# Altium integrated library TI Interface LVDS M-LVDS ECL CML.IntLib: 251 symbols (part 7 of 10)
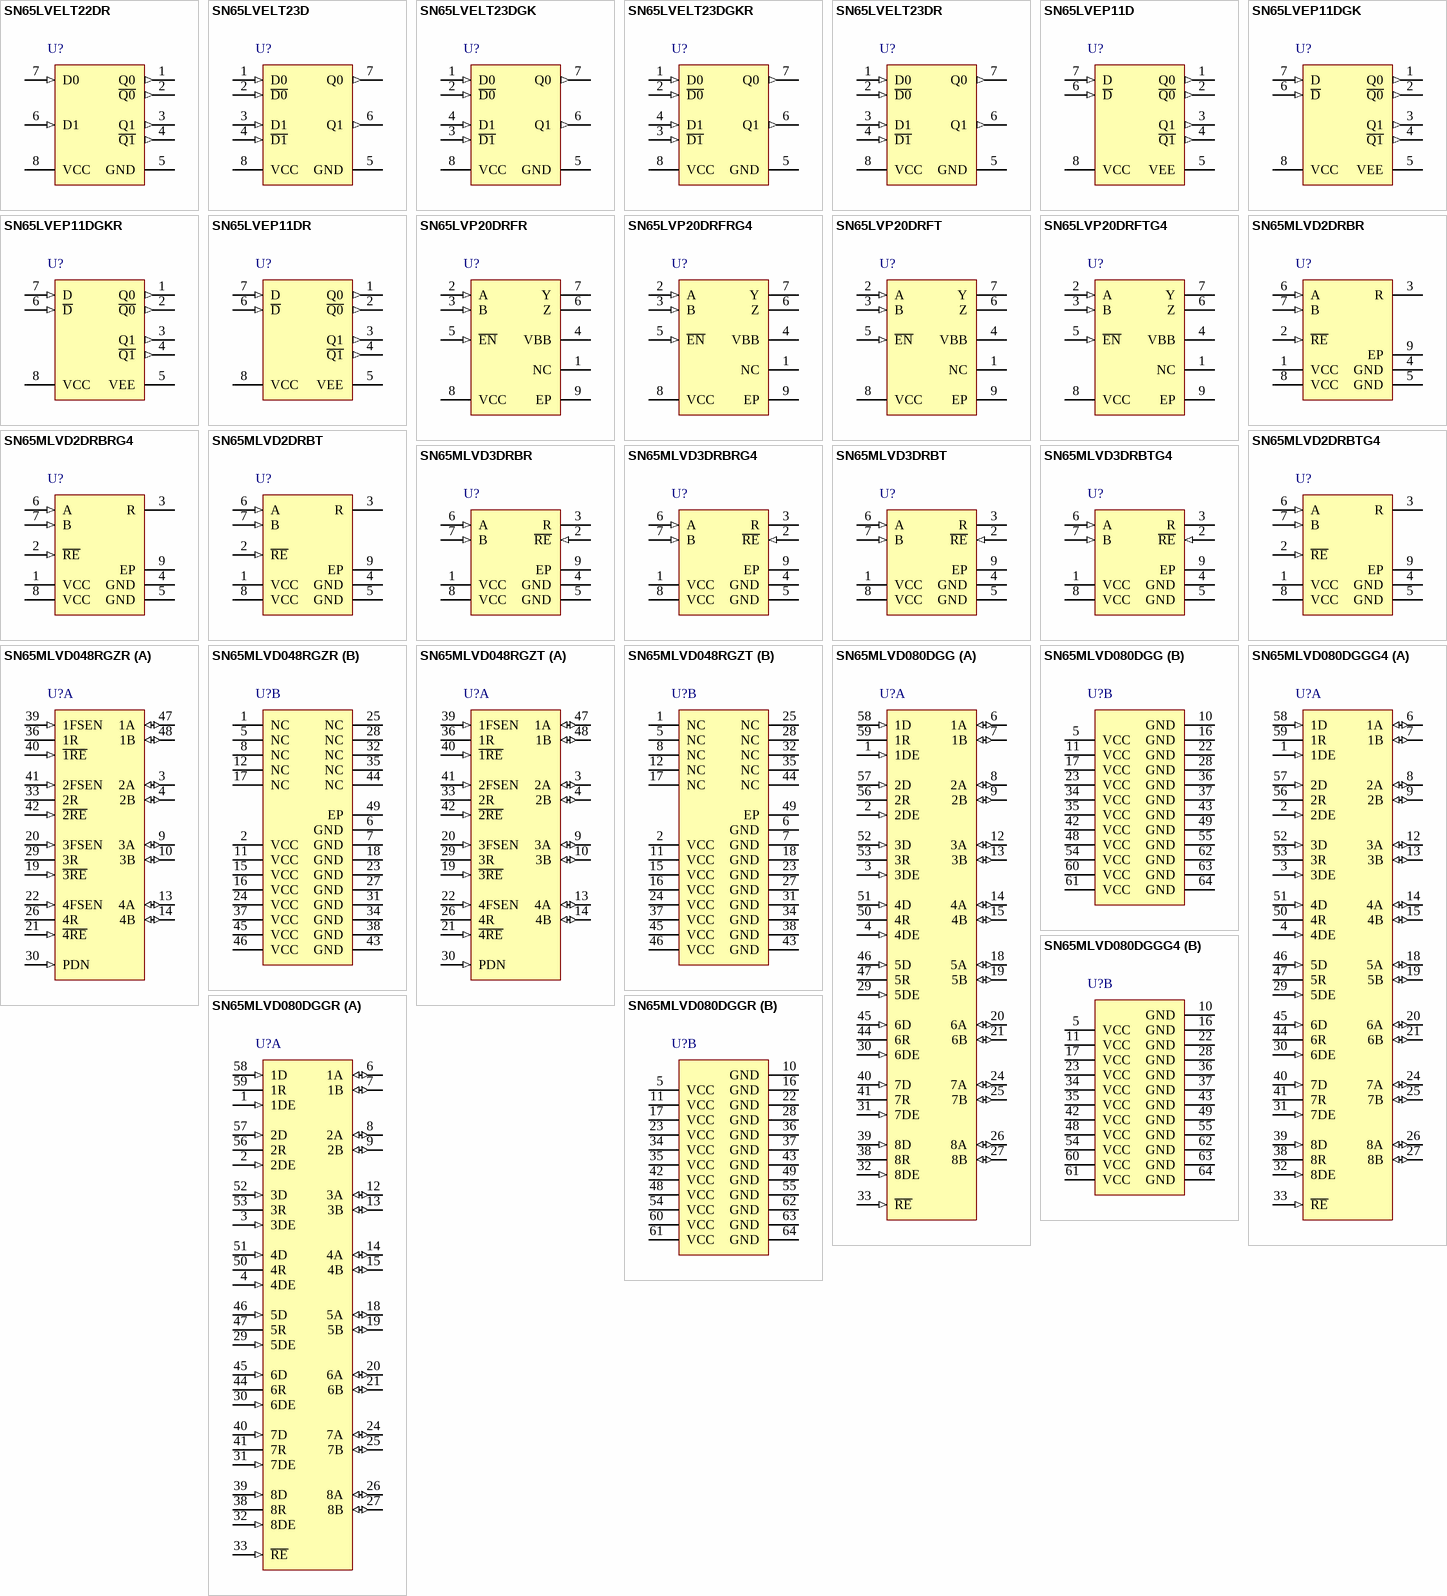
[diagram p15: symbols SN65LVELT22DR to SN65MLVD080DGGR]

## SN65MLVD048RGZR
designator U?
250 Mbps 4-Channel M-LVDS Receiver with TTL Output, 4 Rx, -40 to +85 degC, 48-pin VQFN (RGZ), Green (RoHS & no Sb/Br); Part-to-Part Skew(Max)(ps): 1000; Manufacturer: Texas Instruments; PartNumber: SN65MLVD048RGZR; ESD HBM(kV): 8; ICC(Max)(mA): 25; No. of Rx: 4; No. of Tx: 0; Signaling Rate(Mbps): 250; SubFamily: M-LVDS PHY (<500Mbps); DatasheetVersion: SLLS903; PackageVersion: revF, Jun-2011; PackageReference: RGZ48-4100X4100TP; PackageDescription: 48-Pin Plastic Quad Flatpack No-Lead, 7 x 7 mm Body, 0.5 mm Pitch; Supplier 1: Digi-Key; Supplier Part Number 1: 296-25562-2-ND; Supplier 2: Digi-Key; Supplier Part Number 2: 296-25562-1-ND; Supplier 3: Digi-Key; Supplier Part Number 3: 296-25562-6-ND; Supplier 4: Newark; Supplier Part Number 4: 64R0588; Supplier 5: Mouser; Supplier Part Number 5: 595-SN65MLVD048RGZR; Eco-Plan: Green (RoHS & no Sb/Br); Function: Receiver; Input Signal: M-LVDS; Output Signal: TTL; Mounting Technology: Surface Mount; Code_JEDEC: MO-220; ComponentLink1Description: Datasheet; ComponentLink1URL: http://www.ti.com/general/docs/lit/getliterature.tsp?genericPartNumber=SN65MLVD048&fileType=pdf; ComponentLink2Description: URL Link1; ComponentLink2URL: SamplesURL:http://www.ti.com/product/sn65mlvd048#samples
footprint RGZ48-4100X4100TP (QFN, 48-Leads, Body 7x7mm, Pitch 0.5mm, Thermal Pad 5.15x5.15mm, TI Recommended)
part A pins: 3 2A (io) "M-LVDS bus non-inverting input/output", 4 2B (io) "M-LVDS bus inverting input/output", 9 3A (io) "M-LVDS bus non-inverting input/output", 10 3B (io) "M-LVDS bus inverting input/output", 13 4A (io) "M-LVDS bus non-inverting input/output", 14 4B (io) "M-LVDS bus inverting input/output", 19 ~{3RE} (in) "Receiver enable, active low, enables individual receivers. When this pin is left floating, internally this pin will be pulled to logic HIGH.", 20 3FSEN (in) "Failsafe enable pin. When this pin is left floating, internally this pin will be pulled to logic HIGH.", 21 ~{4RE} (in) "Receiver enable, active low, enables individual receivers. When this pin is left floating, internally this pin will be pulled to logic HIGH.", 22 4FSEN (in) "Failsafe enable pin. When this pin is left floating, internally this pin will be pulled to logic HIGH.", 26 4R (hiz) "Data output from receivers", 29 3R (hiz) "Data output from receivers", 30 PDN (in) "Power Down pin. When this pin is left floating, internally this pin will be pulled to logic LOW.When PDN is HIGH, the device is powered up.When PDN is LOW, the device overrides all other control and powers down. All outputs (See Datasheet)", 33 2R (hiz) "Data output from receivers", 36 1R (hiz) "Data output from receivers", 39 1FSEN (in) "Failsafe enable pin. When this pin is left floating, internally this pin will be pulled to logic HIGH.", 40 ~{1RE} (in) "Receiver enable, active low, enables individual receivers. When this pin is left floating, internally this pin will be pulled to logic HIGH.", 41 2FSEN (in) "Failsafe enable pin. When this pin is left floating, internally this pin will be pulled to logic HIGH.", 42 ~{2RE} (in) "Receiver enable, active low, enables individual receivers. When this pin is left floating, internally this pin will be pulled to logic HIGH.", 47 1A (io) "M-LVDS bus non-inverting input/output", 48 1B (io) "M-LVDS bus inverting input/output"
part B pins: 1 NC "Not Connected", 2 VCC (power) "Supply voltage. ALL VCC pins must be connected to supply.", 5 NC "Not Connected", 6 GND (power) "Circuit ground. ALL GND pins must be connected to ground.", 7 GND (power) "Circuit ground. ALL GND pins must be connected to ground.", 8 NC "Not Connected", 11 VCC (power) "Supply voltage. ALL VCC pins must be connected to supply.", 12 NC "Not Connected", 15 VCC (power) "Supply voltage. ALL VCC pins must be connected to supply.", 16 VCC (power) "Supply voltage. ALL VCC pins must be connected to supply.", 17 NC "Not Connected", 18 GND (power) "Circuit ground. ALL GND pins must be connected to ground.", 23 GND (power) "Circuit ground. ALL GND pins must be connected to ground.", 24 VCC (power) "Supply voltage. ALL VCC pins must be connected to supply.", 25 NC "Not Connected", 27 GND (power) "Circuit ground. ALL GND pins must be connected to ground.", 28 NC "Not Connected", 31 GND (power) "Circuit ground. ALL GND pins must be connected to ground.", 32 NC "Not Connected", 34 GND (power) "Circuit ground. ALL GND pins must be connected to ground.", 35 NC "Not Connected", 37 VCC (power) "Supply voltage. ALL VCC pins must be connected to supply.", 38 GND (power) "Circuit ground. ALL GND pins must be connected to ground.", 43 GND (power) "Circuit ground. ALL GND pins must be connected to ground.", 44 NC "Not Connected. Internal TI Test pin. This pin must be left unconnected.", 45 VCC (power) "Supply voltage. ALL VCC pins must be connected to supply.", 46 VCC (power) "Supply voltage. ALL VCC pins must be connected to supply.", 49 EP (power) "Connected to GND"

## SN65MLVD048RGZT
designator U?
250 Mbps 4-Channel M-LVDS Receiver with TTL Output, 4 Rx, -40 to +85 degC, 48-pin VQFN (RGZ), Green (RoHS & no Sb/Br); Part-to-Part Skew(Max)(ps): 1000; Manufacturer: Texas Instruments; PartNumber: SN65MLVD048RGZT; ESD HBM(kV): 8; ICC(Max)(mA): 25; No. of Rx: 4; No. of Tx: 0; Signaling Rate(Mbps): 250; SubFamily: M-LVDS PHY (<500Mbps); DatasheetVersion: SLLS903; PackageVersion: revF, Jun-2011; PackageReference: RGZ48-4100X4100TP; PackageDescription: 48-Pin Plastic Quad Flatpack No-Lead, 7 x 7 mm Body, 0.5 mm Pitch; Supplier 1: Digi-Key; Supplier Part Number 1: 296-32224-2-ND; Supplier 2: Digi-Key; Supplier Part Number 2: 296-32224-1-ND; Supplier 3: Digi-Key; Supplier Part Number 3: 296-32224-6-ND; Supplier 4: Farnell; Supplier Part Number 4: 1815737RL; Supplier 5: Farnell; Supplier Part Number 5: 1815737; Supplier 6: Newark; Supplier Part Number 6: 63R6146; Supplier 7: Mouser; Supplier Part Number 7: 595-SN65MLVD048RGZT; Eco-Plan: Green (RoHS & no Sb/Br); Function: Receiver; Input Signal: M-LVDS; Output Signal: TTL; Mounting Technology: Surface Mount; Code_JEDEC: MO-220; ComponentLink1Description: Datasheet; ComponentLink1URL: http://www.ti.com/general/docs/lit/getliterature.tsp?genericPartNumber=SN65MLVD048&fileType=pdf; ComponentLink2Description: URL Link1; ComponentLink2URL: SamplesURL:http://www.ti.com/product/sn65mlvd048#samples
footprint RGZ48-4100X4100TP (QFN, 48-Leads, Body 7x7mm, Pitch 0.5mm, Thermal Pad 5.15x5.15mm, TI Recommended)
part A pins: 3 2A (io) "M-LVDS bus non-inverting input/output", 4 2B (io) "M-LVDS bus inverting input/output", 9 3A (io) "M-LVDS bus non-inverting input/output", 10 3B (io) "M-LVDS bus inverting input/output", 13 4A (io) "M-LVDS bus non-inverting input/output", 14 4B (io) "M-LVDS bus inverting input/output", 19 ~{3RE} (in) "Receiver enable, active low, enables individual receivers. When this pin is left floating, internally this pin will be pulled to logic HIGH.", 20 3FSEN (in) "Failsafe enable pin. When this pin is left floating, internally this pin will be pulled to logic HIGH.", 21 ~{4RE} (in) "Receiver enable, active low, enables individual receivers. When this pin is left floating, internally this pin will be pulled to logic HIGH.", 22 4FSEN (in) "Failsafe enable pin. When this pin is left floating, internally this pin will be pulled to logic HIGH.", 26 4R (hiz) "Data output from receivers", 29 3R (hiz) "Data output from receivers", 30 PDN (in) "Power Down pin. When this pin is left floating, internally this pin will be pulled to logic LOW.When PDN is HIGH, the device is powered up.When PDN is LOW, the device overrides all other control and powers down. All outputs (See Datasheet)", 33 2R (hiz) "Data output from receivers", 36 1R (hiz) "Data output from receivers", 39 1FSEN (in) "Failsafe enable pin. When this pin is left floating, internally this pin will be pulled to logic HIGH.", 40 ~{1RE} (in) "Receiver enable, active low, enables individual receivers. When this pin is left floating, internally this pin will be pulled to logic HIGH.", 41 2FSEN (in) "Failsafe enable pin. When this pin is left floating, internally this pin will be pulled to logic HIGH.", 42 ~{2RE} (in) "Receiver enable, active low, enables individual receivers. When this pin is left floating, internally this pin will be pulled to logic HIGH.", 47 1A (io) "M-LVDS bus non-inverting input/output", 48 1B (io) "M-LVDS bus inverting input/output"
part B pins: 1 NC "Not Connected", 2 VCC (power) "Supply voltage. ALL VCC pins must be connected to supply.", 5 NC "Not Connected", 6 GND (power) "Circuit ground. ALL GND pins must be connected to ground.", 7 GND (power) "Circuit ground. ALL GND pins must be connected to ground.", 8 NC "Not Connected", 11 VCC (power) "Supply voltage. ALL VCC pins must be connected to supply.", 12 NC "Not Connected", 15 VCC (power) "Supply voltage. ALL VCC pins must be connected to supply.", 16 VCC (power) "Supply voltage. ALL VCC pins must be connected to supply.", 17 NC "Not Connected", 18 GND (power) "Circuit ground. ALL GND pins must be connected to ground.", 23 GND (power) "Circuit ground. ALL GND pins must be connected to ground.", 24 VCC (power) "Supply voltage. ALL VCC pins must be connected to supply.", 25 NC "Not Connected", 27 GND (power) "Circuit ground. ALL GND pins must be connected to ground.", 28 NC "Not Connected", 31 GND (power) "Circuit ground. ALL GND pins must be connected to ground.", 32 NC "Not Connected", 34 GND (power) "Circuit ground. ALL GND pins must be connected to ground.", 35 NC "Not Connected", 37 VCC (power) "Supply voltage. ALL VCC pins must be connected to supply.", 38 GND (power) "Circuit ground. ALL GND pins must be connected to ground.", 43 GND (power) "Circuit ground. ALL GND pins must be connected to ground.", 44 NC "Not Connected. Internal TI Test pin. This pin must be left unconnected.", 45 VCC (power) "Supply voltage. ALL VCC pins must be connected to supply.", 46 VCC (power) "Supply voltage. ALL VCC pins must be connected to supply.", 49 EP (power) "Connected to GND"

## SN65MLVD080DGG
designator U?
250 Mbps 8-Channel Half Duplex M-LVDS transceiver with LVTTL, M-LVDS Input and M-LVDS, TTL Output, 8 Tx and 8 Rx, -40 to +85 degC, 64-Pin TSSOP (DGG), Green (RoHS & no Sb/Br); Part-to-Part Skew(Max)(ps): 600; Manufacturer: Texas Instruments; PartNumber: SN65MLVD080DGG; ESD HBM(kV): 8; ICC(Max)(mA): 180; Signaling Rate(Mbps): 250; SubFamily: M-LVDS PHY (<500Mbps); DatasheetVersion: SLLS581B; PackageVersion: Jan-1998; PackageReference: DGG64; PackageDescription: 64-Pin Small-Outline Package 0.5 mm Pitch; Eco-Plan: Green (RoHS & no Sb/Br); Function: Transceiver; Input Signal: LVTTL, M-LVDS; No. of Rx: 8; No. of Tx: 8; Output Signal: M-LVDS, TTL; Mounting Technology: Surface Mount; Code_JEDEC: MO-153; ComponentLink1Description: Datasheet; ComponentLink1URL: http://www.ti.com/general/docs/lit/getliterature.tsp?genericPartNumber=SN65MLVD080&fileType=pdf; ComponentLink2Description: URL Link1; ComponentLink2URL: SamplesURL:http://www.ti.com/product/sn65mlvd080#samples
footprint DGG64_N (TSSOP, 64-Leads, Body 17x6.1mm, Pitch 0.5mm, IPC Medium Density)
footprint DGG64_L (TSSOP, 64-Leads, Body 17x6.1mm, Pitch 0.5mm, IPC High Density)
footprint DGG64_M (TSSOP, 64-Leads, Body 17x6.1mm, Pitch 0.5mm, IPC Low Density)
part A pins: 1 1DE (in) "Driver enable, active high, individual enables", 2 2DE (in) "Driver enable, active high, individual enables", 3 3DE (in) "Driver enable, active high, individual enables", 4 4DE (in) "Driver enable, active high, individual enables", 6 1A (io) "M-LVDS bus noninverting input/output", 7 1B (io) "M-LVDS bus inverting input/output", 8 2A (io) "M-LVDS bus noninverting input/output", 9 2B (io) "M-LVDS bus inverting input/output", 12 3A (io) "M-LVDS bus noninverting input/output", 13 3B (io) "M-LVDS bus inverting input/output", 14 4A (io) "M-LVDS bus noninverting input/output", 15 4B (io) "M-LVDS bus inverting input/output", 18 5A (io) "M-LVDS bus noninverting input/output", 19 5B (io) "M-LVDS bus inverting input/output", 20 6A (io) "M-LVDS bus noninverting input/output", 21 6B (io) "M-LVDS bus inverting input/output", 24 7A (io) "M-LVDS bus noninverting input/output", 25 7B (io) "M-LVDS bus inverting input/output", 26 8A (io) "M-LVDS bus noninverting input/output", 27 8B (io) "M-LVDS bus inverting input/output", 29 5DE (in) "Driver enable, active high, individual enables", 30 6DE (in) "Driver enable, active high, individual enables", 31 7DE (in) "Driver enable, active high, individual enables", 32 8DE (in) "Driver enable, active high, individual enables", 33 ~{RE} (in) "Receiver enable, active low, enables all receivers", 38 8R (hiz) "Data output for receivers", 39 8D (in) "Data inputs for drivers", 40 7D (in) "Data inputs for drivers", 41 7R (hiz) "Data output for receivers", 44 6R (hiz) "Data output for receivers", 45 6D (in) "Data inputs for drivers", 46 5D (in) "Data inputs for drivers", 47 5R (hiz) "Data output for receivers", 50 4R (hiz) "Data output for receivers", 51 4D (in) "Data inputs for drivers", 52 3D (in) "Data inputs for drivers", 53 3R (hiz) "Data output for receivers", 56 2R (hiz) "Data output for receivers", 57 2D (in) "Data inputs for drivers", 58 1D (in) "Data inputs for drivers", 59 1R (hiz) "Data output for receivers"
part B pins: 5 VCC (power) "Supply voltage", 10 GND (power) "Circuit ground", 11 VCC (power) "Supply voltage", 16 GND (power) "Circuit ground", 17 VCC (power) "Supply voltage", 22 GND (power) "Circuit ground", 23 VCC (power) "Supply voltage", 28 GND (power) "Circuit ground", 34 VCC (power) "Supply voltage", 35 VCC (power) "Supply voltage", 36 GND (power) "Circuit ground", 37 GND (power) "Circuit ground", 42 VCC (power) "Supply voltage", 43 GND (power) "Circuit ground", 48 VCC (power) "Supply voltage", 49 GND (power) "Circuit ground", 54 VCC (power) "Supply voltage", 55 GND (power) "Circuit ground", 60 VCC (power) "Supply voltage", 61 VCC (power) "Supply voltage", 62 GND (power) "Circuit ground", 63 GND (power) "Circuit ground", 64 GND (power) "Circuit ground"

## SN65MLVD080DGGG4
designator U?
250 Mbps 8-Channel Half Duplex M-LVDS transceiver with LVTTL, M-LVDS Input and M-LVDS, TTL Output, 8 Tx and 8 Rx, -40 to +85 degC, 64-Pin TSSOP (DGG), Green (RoHS & no Sb/Br); Part-to-Part Skew(Max)(ps): 600; Manufacturer: Texas Instruments; PartNumber: SN65MLVD080DGGG4; ESD HBM(kV): 8; ICC(Max)(mA): 180; Signaling Rate(Mbps): 250; SubFamily: M-LVDS PHY (<500Mbps); DatasheetVersion: SLLS581B; PackageVersion: Jan-1998; PackageReference: DGG64; PackageDescription: 64-Pin Small-Outline Package 0.5 mm Pitch; Eco-Plan: Green (RoHS & no Sb/Br); Function: Transceiver; Input Signal: LVTTL, M-LVDS; No. of Rx: 8; No. of Tx: 8; Output Signal: M-LVDS, TTL; Mounting Technology: Surface Mount; Code_JEDEC: MO-153; ComponentLink1Description: Datasheet; ComponentLink1URL: http://www.ti.com/general/docs/lit/getliterature.tsp?genericPartNumber=SN65MLVD080&fileType=pdf; ComponentLink2Description: URL Link1; ComponentLink2URL: SamplesURL:http://www.ti.com/product/sn65mlvd080#samples
footprint DGG64_N (TSSOP, 64-Leads, Body 17x6.1mm, Pitch 0.5mm, IPC Medium Density)
footprint DGG64_L (TSSOP, 64-Leads, Body 17x6.1mm, Pitch 0.5mm, IPC High Density)
footprint DGG64_M (TSSOP, 64-Leads, Body 17x6.1mm, Pitch 0.5mm, IPC Low Density)
part A pins: 1 1DE (in) "Driver enable, active high, individual enables", 2 2DE (in) "Driver enable, active high, individual enables", 3 3DE (in) "Driver enable, active high, individual enables", 4 4DE (in) "Driver enable, active high, individual enables", 6 1A (io) "M-LVDS bus noninverting input/output", 7 1B (io) "M-LVDS bus inverting input/output", 8 2A (io) "M-LVDS bus noninverting input/output", 9 2B (io) "M-LVDS bus inverting input/output", 12 3A (io) "M-LVDS bus noninverting input/output", 13 3B (io) "M-LVDS bus inverting input/output", 14 4A (io) "M-LVDS bus noninverting input/output", 15 4B (io) "M-LVDS bus inverting input/output", 18 5A (io) "M-LVDS bus noninverting input/output", 19 5B (io) "M-LVDS bus inverting input/output", 20 6A (io) "M-LVDS bus noninverting input/output", 21 6B (io) "M-LVDS bus inverting input/output", 24 7A (io) "M-LVDS bus noninverting input/output", 25 7B (io) "M-LVDS bus inverting input/output", 26 8A (io) "M-LVDS bus noninverting input/output", 27 8B (io) "M-LVDS bus inverting input/output", 29 5DE (in) "Driver enable, active high, individual enables", 30 6DE (in) "Driver enable, active high, individual enables", 31 7DE (in) "Driver enable, active high, individual enables", 32 8DE (in) "Driver enable, active high, individual enables", 33 ~{RE} (in) "Receiver enable, active low, enables all receivers", 38 8R (hiz) "Data output for receivers", 39 8D (in) "Data inputs for drivers", 40 7D (in) "Data inputs for drivers", 41 7R (hiz) "Data output for receivers", 44 6R (hiz) "Data output for receivers", 45 6D (in) "Data inputs for drivers", 46 5D (in) "Data inputs for drivers", 47 5R (hiz) "Data output for receivers", 50 4R (hiz) "Data output for receivers", 51 4D (in) "Data inputs for drivers", 52 3D (in) "Data inputs for drivers", 53 3R (hiz) "Data output for receivers", 56 2R (hiz) "Data output for receivers", 57 2D (in) "Data inputs for drivers", 58 1D (in) "Data inputs for drivers", 59 1R (hiz) "Data output for receivers"
part B pins: 5 VCC (power) "Supply voltage", 10 GND (power) "Circuit ground", 11 VCC (power) "Supply voltage", 16 GND (power) "Circuit ground", 17 VCC (power) "Supply voltage", 22 GND (power) "Circuit ground", 23 VCC (power) "Supply voltage", 28 GND (power) "Circuit ground", 34 VCC (power) "Supply voltage", 35 VCC (power) "Supply voltage", 36 GND (power) "Circuit ground", 37 GND (power) "Circuit ground", 42 VCC (power) "Supply voltage", 43 GND (power) "Circuit ground", 48 VCC (power) "Supply voltage", 49 GND (power) "Circuit ground", 54 VCC (power) "Supply voltage", 55 GND (power) "Circuit ground", 60 VCC (power) "Supply voltage", 61 VCC (power) "Supply voltage", 62 GND (power) "Circuit ground", 63 GND (power) "Circuit ground", 64 GND (power) "Circuit ground"

## SN65MLVD080DGGR
designator U?
250 Mbps 8-Channel Half Duplex M-LVDS transceiver with LVTTL, M-LVDS Input and M-LVDS, TTL Output, 8 Tx and 8 Rx, -40 to +85 degC, 64-Pin TSSOP (DGG), Green (RoHS & no Sb/Br); Part-to-Part Skew(Max)(ps): 600; Manufacturer: Texas Instruments; PartNumber: SN65MLVD080DGGR; ESD HBM(kV): 8; ICC(Max)(mA): 180; Signaling Rate(Mbps): 250; SubFamily: M-LVDS PHY (<500Mbps); DatasheetVersion: SLLS581B; PackageVersion: Jan-1998; PackageReference: DGG64; PackageDescription: 64-Pin Small-Outline Package 0.5 mm Pitch; Eco-Plan: Green (RoHS & no Sb/Br); Function: Transceiver; Input Signal: LVTTL, M-LVDS; No. of Rx: 8; No. of Tx: 8; Output Signal: M-LVDS, TTL; Mounting Technology: Surface Mount; Code_JEDEC: MO-153; ComponentLink1Description: Datasheet; ComponentLink1URL: http://www.ti.com/general/docs/lit/getliterature.tsp?genericPartNumber=SN65MLVD080&fileType=pdf; ComponentLink2Description: URL Link1; ComponentLink2URL: SamplesURL:http://www.ti.com/product/sn65mlvd080#samples
footprint DGG64_N (TSSOP, 64-Leads, Body 17x6.1mm, Pitch 0.5mm, IPC Medium Density)
footprint DGG64_L (TSSOP, 64-Leads, Body 17x6.1mm, Pitch 0.5mm, IPC High Density)
footprint DGG64_M (TSSOP, 64-Leads, Body 17x6.1mm, Pitch 0.5mm, IPC Low Density)
part A pins: 1 1DE (in) "Driver enable, active high, individual enables", 2 2DE (in) "Driver enable, active high, individual enables", 3 3DE (in) "Driver enable, active high, individual enables", 4 4DE (in) "Driver enable, active high, individual enables", 6 1A (io) "M-LVDS bus noninverting input/output", 7 1B (io) "M-LVDS bus inverting input/output", 8 2A (io) "M-LVDS bus noninverting input/output", 9 2B (io) "M-LVDS bus inverting input/output", 12 3A (io) "M-LVDS bus noninverting input/output", 13 3B (io) "M-LVDS bus inverting input/output", 14 4A (io) "M-LVDS bus noninverting input/output", 15 4B (io) "M-LVDS bus inverting input/output", 18 5A (io) "M-LVDS bus noninverting input/output", 19 5B (io) "M-LVDS bus inverting input/output", 20 6A (io) "M-LVDS bus noninverting input/output", 21 6B (io) "M-LVDS bus inverting input/output", 24 7A (io) "M-LVDS bus noninverting input/output", 25 7B (io) "M-LVDS bus inverting input/output", 26 8A (io) "M-LVDS bus noninverting input/output", 27 8B (io) "M-LVDS bus inverting input/output", 29 5DE (in) "Driver enable, active high, individual enables", 30 6DE (in) "Driver enable, active high, individual enables", 31 7DE (in) "Driver enable, active high, individual enables", 32 8DE (in) "Driver enable, active high, individual enables", 33 ~{RE} (in) "Receiver enable, active low, enables all receivers", 38 8R (hiz) "Data output for receivers", 39 8D (in) "Data inputs for drivers", 40 7D (in) "Data inputs for drivers", 41 7R (hiz) "Data output for receivers", 44 6R (hiz) "Data output for receivers", 45 6D (in) "Data inputs for drivers", 46 5D (in) "Data inputs for drivers", 47 5R (hiz) "Data output for receivers", 50 4R (hiz) "Data output for receivers", 51 4D (in) "Data inputs for drivers", 52 3D (in) "Data inputs for drivers", 53 3R (hiz) "Data output for receivers", 56 2R (hiz) "Data output for receivers", 57 2D (in) "Data inputs for drivers", 58 1D (in) "Data inputs for drivers", 59 1R (hiz) "Data output for receivers"
part B pins: 5 VCC (power) "Supply voltage", 10 GND (power) "Circuit ground", 11 VCC (power) "Supply voltage", 16 GND (power) "Circuit ground", 17 VCC (power) "Supply voltage", 22 GND (power) "Circuit ground", 23 VCC (power) "Supply voltage", 28 GND (power) "Circuit ground", 34 VCC (power) "Supply voltage", 35 VCC (power) "Supply voltage", 36 GND (power) "Circuit ground", 37 GND (power) "Circuit ground", 42 VCC (power) "Supply voltage", 43 GND (power) "Circuit ground", 48 VCC (power) "Supply voltage", 49 GND (power) "Circuit ground", 54 VCC (power) "Supply voltage", 55 GND (power) "Circuit ground", 60 VCC (power) "Supply voltage", 61 VCC (power) "Supply voltage", 62 GND (power) "Circuit ground", 63 GND (power) "Circuit ground", 64 GND (power) "Circuit ground"

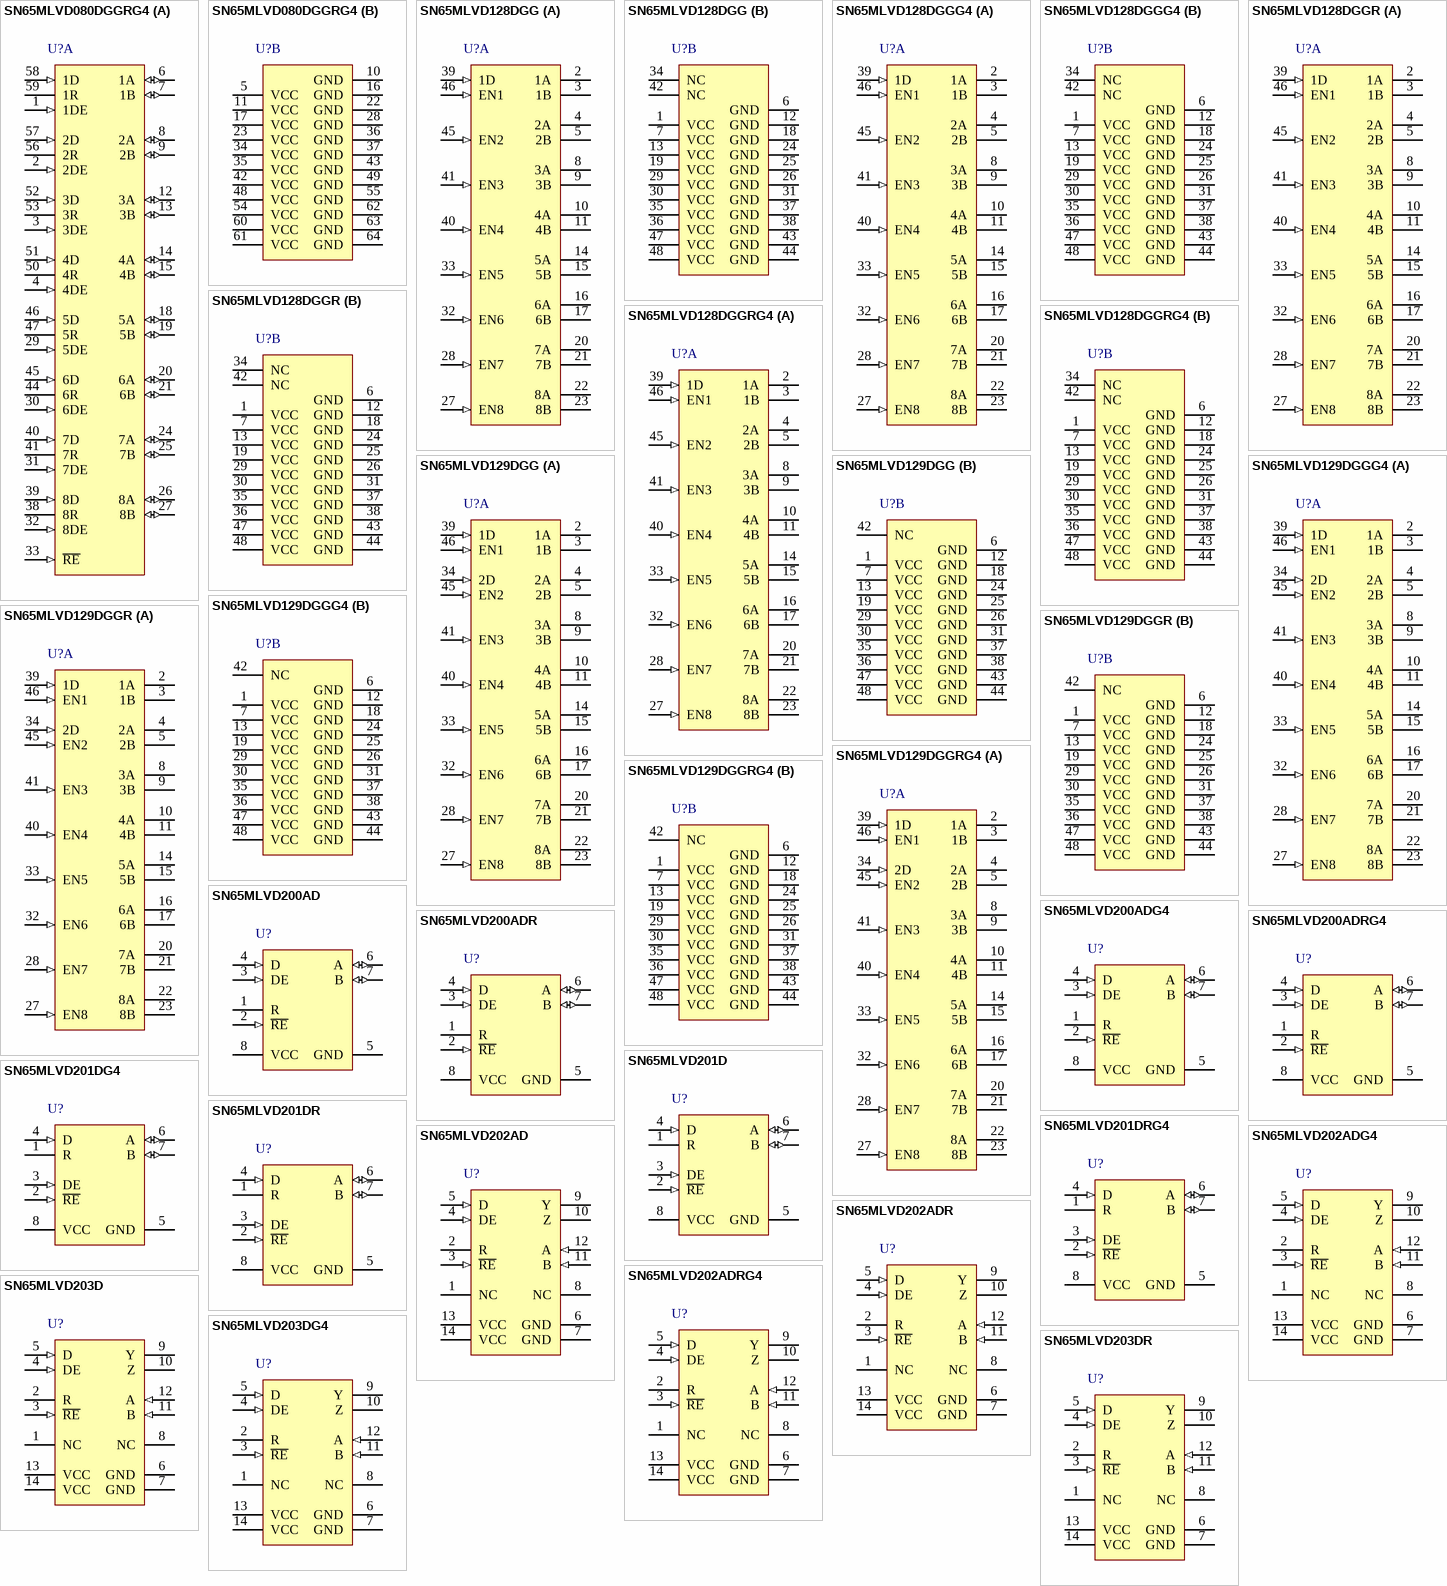
[diagram p6: symbols SN65MLVD080DGGRG4 to SN65MLVD203DR]

## SN65MLVD080DGGRG4
designator U?
250 Mbps 8-Channel Half Duplex M-LVDS transceiver with LVTTL, M-LVDS Input and M-LVDS, TTL Output, 8 Tx and 8 Rx, -40 to +85 degC, 64-Pin TSSOP (DGG), Green (RoHS & no Sb/Br); Part-to-Part Skew(Max)(ps): 600; Manufacturer: Texas Instruments; PartNumber: SN65MLVD080DGGRG4; ESD HBM(kV): 8; ICC(Max)(mA): 180; Signaling Rate(Mbps): 250; SubFamily: M-LVDS PHY (<500Mbps); DatasheetVersion: SLLS581B; PackageVersion: Jan-1998; PackageReference: DGG64; PackageDescription: 64-Pin Small-Outline Package 0.5 mm Pitch; Eco-Plan: Green (RoHS & no Sb/Br); Function: Transceiver; Input Signal: LVTTL, M-LVDS; No. of Rx: 8; No. of Tx: 8; Output Signal: M-LVDS, TTL; Mounting Technology: Surface Mount; Code_JEDEC: MO-153; ComponentLink1Description: Datasheet; ComponentLink1URL: http://www.ti.com/general/docs/lit/getliterature.tsp?genericPartNumber=SN65MLVD080&fileType=pdf; ComponentLink2Description: URL Link1; ComponentLink2URL: SamplesURL:http://www.ti.com/product/sn65mlvd080#samples
footprint DGG64_N (TSSOP, 64-Leads, Body 17x6.1mm, Pitch 0.5mm, IPC Medium Density)
footprint DGG64_L (TSSOP, 64-Leads, Body 17x6.1mm, Pitch 0.5mm, IPC High Density)
footprint DGG64_M (TSSOP, 64-Leads, Body 17x6.1mm, Pitch 0.5mm, IPC Low Density)
part A pins: 1 1DE (in) "Driver enable, active high, individual enables", 2 2DE (in) "Driver enable, active high, individual enables", 3 3DE (in) "Driver enable, active high, individual enables", 4 4DE (in) "Driver enable, active high, individual enables", 6 1A (io) "M-LVDS bus noninverting input/output", 7 1B (io) "M-LVDS bus inverting input/output", 8 2A (io) "M-LVDS bus noninverting input/output", 9 2B (io) "M-LVDS bus inverting input/output", 12 3A (io) "M-LVDS bus noninverting input/output", 13 3B (io) "M-LVDS bus inverting input/output", 14 4A (io) "M-LVDS bus noninverting input/output", 15 4B (io) "M-LVDS bus inverting input/output", 18 5A (io) "M-LVDS bus noninverting input/output", 19 5B (io) "M-LVDS bus inverting input/output", 20 6A (io) "M-LVDS bus noninverting input/output", 21 6B (io) "M-LVDS bus inverting input/output", 24 7A (io) "M-LVDS bus noninverting input/output", 25 7B (io) "M-LVDS bus inverting input/output", 26 8A (io) "M-LVDS bus noninverting input/output", 27 8B (io) "M-LVDS bus inverting input/output", 29 5DE (in) "Driver enable, active high, individual enables", 30 6DE (in) "Driver enable, active high, individual enables", 31 7DE (in) "Driver enable, active high, individual enables", 32 8DE (in) "Driver enable, active high, individual enables", 33 ~{RE} (in) "Receiver enable, active low, enables all receivers", 38 8R (hiz) "Data output for receivers", 39 8D (in) "Data inputs for drivers", 40 7D (in) "Data inputs for drivers", 41 7R (hiz) "Data output for receivers", 44 6R (hiz) "Data output for receivers", 45 6D (in) "Data inputs for drivers", 46 5D (in) "Data inputs for drivers", 47 5R (hiz) "Data output for receivers", 50 4R (hiz) "Data output for receivers", 51 4D (in) "Data inputs for drivers", 52 3D (in) "Data inputs for drivers", 53 3R (hiz) "Data output for receivers", 56 2R (hiz) "Data output for receivers", 57 2D (in) "Data inputs for drivers", 58 1D (in) "Data inputs for drivers", 59 1R (hiz) "Data output for receivers"
part B pins: 5 VCC (power) "Supply voltage", 10 GND (power) "Circuit ground", 11 VCC (power) "Supply voltage", 16 GND (power) "Circuit ground", 17 VCC (power) "Supply voltage", 22 GND (power) "Circuit ground", 23 VCC (power) "Supply voltage", 28 GND (power) "Circuit ground", 34 VCC (power) "Supply voltage", 35 VCC (power) "Supply voltage", 36 GND (power) "Circuit ground", 37 GND (power) "Circuit ground", 42 VCC (power) "Supply voltage", 43 GND (power) "Circuit ground", 48 VCC (power) "Supply voltage", 49 GND (power) "Circuit ground", 54 VCC (power) "Supply voltage", 55 GND (power) "Circuit ground", 60 VCC (power) "Supply voltage", 61 VCC (power) "Supply voltage", 62 GND (power) "Circuit ground", 63 GND (power) "Circuit ground", 64 GND (power) "Circuit ground"

## SN65MLVD128DGG
designator U?
250 Mbps 1:8 LVTTL to M-LVDS Repeater, 8 Tx and 1 Rx, -40 to +85 degC, 48-pin TSSOP (DGG), Green (RoHS & no Sb/Br); Part-to-Part Skew(Max)(ps): 800; Manufacturer: Texas Instruments; PartNumber: SN65MLVD128DGG; ESD HBM(kV): 9; Function: Repeater/Translator; ICC(Max)(mA): 140; No. of Rx: 1; No. of Tx: 8; Peak-to-Peak Jitter(Max)(ps): 110; Signaling Rate(Mbps): 250; SubFamily: M-LVDS PHY (<500Mbps); DatasheetVersion: SLLS586; PackageVersion: revF, Dec-1997; PackageReference: DGG48; PackageDescription: 48-Pin Plastic Thin Shrink Small Outline Package 0.5 mm Pitch; Supplier 1: Digi-Key; Supplier Part Number 1: 296-16849-ND; Supplier 2: Newark; Supplier Part Number 2: 01J0713; Supplier 3: Mouser; Supplier Part Number 3: 595-SN65MLVD128DGG; Eco-Plan: Green (RoHS & no Sb/Br); Input Signal: LVTTL; Output Signal: M-LVDS; Mounting Technology: Surface Mount; Code_JEDEC: MO-153; ComponentLink1Description: Datasheet; ComponentLink1URL: http://www.ti.com/general/docs/lit/getliterature.tsp?genericPartNumber=SN65MLVD128&fileType=pdf; ComponentLink2Description: URL Link1; ComponentLink2URL: SamplesURL:http://www.ti.com/product/sn65mlvd128#samples
footprint DGG48_N (TSSOP, 48-Leads, Body 12.5x6.1mm, Pitch 0.5mm, IPC Medium Density)
footprint DGG48_L (TSSOP, 48-Leads, Body 12.5x6.1mm, Pitch 0.5mm, IPC High Density)
footprint DGG48_M (TSSOP, 48-Leads, Body 12.5x6.1mm, Pitch 0.5mm, IPC Low Density)
part A pins: 2 1A (hiz) "M-LVDS bus noninverting output", 3 1B (hiz) "M-LVDS bus inverting output", 4 2A (hiz) "M-LVDS bus noninverting output", 5 2B (hiz) "M-LVDS bus inverting output", 8 3A (hiz) "M-LVDS bus noninverting output", 9 3B (hiz) "M-LVDS bus inverting output", 10 4A (hiz) "M-LVDS bus noninverting output", 11 4B (hiz) "M-LVDS bus inverting output", 14 5A (hiz) "M-LVDS bus noninverting output", 15 5B (hiz) "M-LVDS bus inverting output", 16 6A (hiz) "M-LVDS bus noninverting output", 17 6B (hiz) "M-LVDS bus inverting output", 20 7A (hiz) "M-LVDS bus noninverting output", 21 7B (hiz) "M-LVDS bus inverting output", 22 8A (hiz) "M-LVDS bus noninverting output", 23 8B (hiz) "M-LVDS bus inverting output", 27 EN8 (in) "Driver enable, active high, individual enables", 28 EN7 (in) "Driver enable, active high, individual enables", 32 EN6 (in) "Driver enable, active high, individual enables", 33 EN5 (in) "Driver enable, active high, individual enables", 39 1D (in) "Data inputs for drivers", 40 EN4 (in) "Driver enable, active high, individual enables", 41 EN3 (in) "Driver enable, active high, individual enables", 45 EN2 (in) "Driver enable, active high, individual enables", 46 EN1 (in) "Driver enable, active high, individual enables"
part B pins: 1 VCC (power) "Supply voltage", 6 GND (power) "Circuit ground", 7 VCC (power) "Supply voltage", 12 GND (power) "Circuit ground", 13 VCC (power) "Supply voltage", 18 GND (power) "Circuit ground", 19 VCC (power) "Supply voltage", 24 GND (power) "Circuit ground", 25 GND (power) "Circuit ground", 26 GND (power) "Circuit ground", 29 VCC (power) "Supply voltage", 30 VCC (power) "Supply voltage", 31 GND (power) "Circuit ground", 34 NC "Not connected", 35 VCC (power) "Supply voltage", 36 VCC (power) "Supply voltage", 37 GND (power) "Circuit ground", 38 GND (power) "Circuit ground", 42 NC "Not connected", 43 GND (power) "Circuit ground", 44 GND (power) "Circuit ground", 47 VCC (power) "Supply voltage", 48 VCC (power) "Supply voltage"

## SN65MLVD128DGGG4
designator U?
250 Mbps 1:8 LVTTL to M-LVDS Repeater, 8 Tx and 1 Rx, -40 to +85 degC, 48-pin TSSOP (DGG), Green (RoHS & no Sb/Br); Part-to-Part Skew(Max)(ps): 800; Manufacturer: Texas Instruments; PartNumber: SN65MLVD128DGGG4; ESD HBM(kV): 9; Function: Repeater/Translator; ICC(Max)(mA): 140; No. of Rx: 1; No. of Tx: 8; Peak-to-Peak Jitter(Max)(ps): 110; Signaling Rate(Mbps): 250; SubFamily: M-LVDS PHY (<500Mbps); DatasheetVersion: SLLS586; PackageVersion: revF, Dec-1997; PackageReference: DGG48; PackageDescription: 48-Pin Plastic Thin Shrink Small Outline Package 0.5 mm Pitch; Supplier 1: Digi-Key; Supplier Part Number 1: SN65MLVD128DGGG4-ND; Supplier 2: Newark; Supplier Part Number 2: 58K6507; Supplier 3: Mouser; Supplier Part Number 3: 595-SN65MLVD128DGGG4; Eco-Plan: Green (RoHS & no Sb/Br); Input Signal: LVTTL; Output Signal: M-LVDS; Mounting Technology: Surface Mount; Code_JEDEC: MO-153; ComponentLink1Description: Datasheet; ComponentLink1URL: http://www.ti.com/general/docs/lit/getliterature.tsp?genericPartNumber=SN65MLVD128&fileType=pdf; ComponentLink2Description: URL Link1; ComponentLink2URL: SamplesURL:http://www.ti.com/product/sn65mlvd128#samples
footprint DGG48_N (TSSOP, 48-Leads, Body 12.5x6.1mm, Pitch 0.5mm, IPC Medium Density)
footprint DGG48_L (TSSOP, 48-Leads, Body 12.5x6.1mm, Pitch 0.5mm, IPC High Density)
footprint DGG48_M (TSSOP, 48-Leads, Body 12.5x6.1mm, Pitch 0.5mm, IPC Low Density)
part A pins: 2 1A (hiz) "M-LVDS bus noninverting output", 3 1B (hiz) "M-LVDS bus inverting output", 4 2A (hiz) "M-LVDS bus noninverting output", 5 2B (hiz) "M-LVDS bus inverting output", 8 3A (hiz) "M-LVDS bus noninverting output", 9 3B (hiz) "M-LVDS bus inverting output", 10 4A (hiz) "M-LVDS bus noninverting output", 11 4B (hiz) "M-LVDS bus inverting output", 14 5A (hiz) "M-LVDS bus noninverting output", 15 5B (hiz) "M-LVDS bus inverting output", 16 6A (hiz) "M-LVDS bus noninverting output", 17 6B (hiz) "M-LVDS bus inverting output", 20 7A (hiz) "M-LVDS bus noninverting output", 21 7B (hiz) "M-LVDS bus inverting output", 22 8A (hiz) "M-LVDS bus noninverting output", 23 8B (hiz) "M-LVDS bus inverting output", 27 EN8 (in) "Driver enable, active high, individual enables", 28 EN7 (in) "Driver enable, active high, individual enables", 32 EN6 (in) "Driver enable, active high, individual enables", 33 EN5 (in) "Driver enable, active high, individual enables", 39 1D (in) "Data inputs for drivers", 40 EN4 (in) "Driver enable, active high, individual enables", 41 EN3 (in) "Driver enable, active high, individual enables", 45 EN2 (in) "Driver enable, active high, individual enables", 46 EN1 (in) "Driver enable, active high, individual enables"
part B pins: 1 VCC (power) "Supply voltage", 6 GND (power) "Circuit ground", 7 VCC (power) "Supply voltage", 12 GND (power) "Circuit ground", 13 VCC (power) "Supply voltage", 18 GND (power) "Circuit ground", 19 VCC (power) "Supply voltage", 24 GND (power) "Circuit ground", 25 GND (power) "Circuit ground", 26 GND (power) "Circuit ground", 29 VCC (power) "Supply voltage", 30 VCC (power) "Supply voltage", 31 GND (power) "Circuit ground", 34 NC "Not connected", 35 VCC (power) "Supply voltage", 36 VCC (power) "Supply voltage", 37 GND (power) "Circuit ground", 38 GND (power) "Circuit ground", 42 NC "Not connected", 43 GND (power) "Circuit ground", 44 GND (power) "Circuit ground", 47 VCC (power) "Supply voltage", 48 VCC (power) "Supply voltage"

## SN65MLVD128DGGR
designator U?
250 Mbps 1:8 LVTTL to M-LVDS Repeater, 8 Tx and 1 Rx, -40 to +85 degC, 48-pin TSSOP (DGG), Green (RoHS & no Sb/Br); Part-to-Part Skew(Max)(ps): 800; Manufacturer: Texas Instruments; PartNumber: SN65MLVD128DGGR; ESD HBM(kV): 9; Function: Repeater/Translator; ICC(Max)(mA): 140; No. of Rx: 1; No. of Tx: 8; Peak-to-Peak Jitter(Max)(ps): 110; Signaling Rate(Mbps): 250; SubFamily: M-LVDS PHY (<500Mbps); DatasheetVersion: SLLS586; PackageVersion: revF, Dec-1997; PackageReference: DGG48; PackageDescription: 48-Pin Plastic Thin Shrink Small Outline Package 0.5 mm Pitch; Supplier 1: Digi-Key; Supplier Part Number 1: SN65MLVD128DGGR-ND; Supplier 2: Newark; Supplier Part Number 2: 01J0714; Supplier 3: Mouser; Supplier Part Number 3: 595-SN65MLVD128DGGR; Eco-Plan: Green (RoHS & no Sb/Br); Input Signal: LVTTL; Output Signal: M-LVDS; Mounting Technology: Surface Mount; Code_JEDEC: MO-153; ComponentLink1Description: Datasheet; ComponentLink1URL: http://www.ti.com/general/docs/lit/getliterature.tsp?genericPartNumber=SN65MLVD128&fileType=pdf; ComponentLink2Description: URL Link1; ComponentLink2URL: SamplesURL:http://www.ti.com/product/sn65mlvd128#samples
footprint DGG48_N (TSSOP, 48-Leads, Body 12.5x6.1mm, Pitch 0.5mm, IPC Medium Density)
footprint DGG48_L (TSSOP, 48-Leads, Body 12.5x6.1mm, Pitch 0.5mm, IPC High Density)
footprint DGG48_M (TSSOP, 48-Leads, Body 12.5x6.1mm, Pitch 0.5mm, IPC Low Density)
part A pins: 2 1A (hiz) "M-LVDS bus noninverting output", 3 1B (hiz) "M-LVDS bus inverting output", 4 2A (hiz) "M-LVDS bus noninverting output", 5 2B (hiz) "M-LVDS bus inverting output", 8 3A (hiz) "M-LVDS bus noninverting output", 9 3B (hiz) "M-LVDS bus inverting output", 10 4A (hiz) "M-LVDS bus noninverting output", 11 4B (hiz) "M-LVDS bus inverting output", 14 5A (hiz) "M-LVDS bus noninverting output", 15 5B (hiz) "M-LVDS bus inverting output", 16 6A (hiz) "M-LVDS bus noninverting output", 17 6B (hiz) "M-LVDS bus inverting output", 20 7A (hiz) "M-LVDS bus noninverting output", 21 7B (hiz) "M-LVDS bus inverting output", 22 8A (hiz) "M-LVDS bus noninverting output", 23 8B (hiz) "M-LVDS bus inverting output", 27 EN8 (in) "Driver enable, active high, individual enables", 28 EN7 (in) "Driver enable, active high, individual enables", 32 EN6 (in) "Driver enable, active high, individual enables", 33 EN5 (in) "Driver enable, active high, individual enables", 39 1D (in) "Data inputs for drivers", 40 EN4 (in) "Driver enable, active high, individual enables", 41 EN3 (in) "Driver enable, active high, individual enables", 45 EN2 (in) "Driver enable, active high, individual enables", 46 EN1 (in) "Driver enable, active high, individual enables"
part B pins: 1 VCC (power) "Supply voltage", 6 GND (power) "Circuit ground", 7 VCC (power) "Supply voltage", 12 GND (power) "Circuit ground", 13 VCC (power) "Supply voltage", 18 GND (power) "Circuit ground", 19 VCC (power) "Supply voltage", 24 GND (power) "Circuit ground", 25 GND (power) "Circuit ground", 26 GND (power) "Circuit ground", 29 VCC (power) "Supply voltage", 30 VCC (power) "Supply voltage", 31 GND (power) "Circuit ground", 34 NC "Not connected", 35 VCC (power) "Supply voltage", 36 VCC (power) "Supply voltage", 37 GND (power) "Circuit ground", 38 GND (power) "Circuit ground", 42 NC "Not connected", 43 GND (power) "Circuit ground", 44 GND (power) "Circuit ground", 47 VCC (power) "Supply voltage", 48 VCC (power) "Supply voltage"

## SN65MLVD128DGGRG4
designator U?
250 Mbps 1:8 LVTTL to M-LVDS Repeater, 8 Tx and 1 Rx, -40 to +85 degC, 48-pin TSSOP (DGG), Green (RoHS & no Sb/Br); Part-to-Part Skew(Max)(ps): 800; Manufacturer: Texas Instruments; PartNumber: SN65MLVD128DGGRG4; ESD HBM(kV): 9; Function: Repeater/Translator; ICC(Max)(mA): 140; No. of Rx: 1; No. of Tx: 8; Peak-to-Peak Jitter(Max)(ps): 110; Signaling Rate(Mbps): 250; SubFamily: M-LVDS PHY (<500Mbps); DatasheetVersion: SLLS586; PackageVersion: revF, Dec-1997; PackageReference: DGG48; PackageDescription: 48-Pin Plastic Thin Shrink Small Outline Package 0.5 mm Pitch; Supplier 1: Digi-Key; Supplier Part Number 1: SN65MLVD128DGGRG4-ND; Supplier 2: Newark; Supplier Part Number 2: 54K0592; Supplier 3: Mouser; Supplier Part Number 3: 595-SN65MLVD128DGGRG; Eco-Plan: Green (RoHS & no Sb/Br); Input Signal: LVTTL; Output Signal: M-LVDS; Mounting Technology: Surface Mount; Code_JEDEC: MO-153; ComponentLink1Description: Datasheet; ComponentLink1URL: http://www.ti.com/general/docs/lit/getliterature.tsp?genericPartNumber=SN65MLVD128&fileType=pdf; ComponentLink2Description: URL Link1; ComponentLink2URL: SamplesURL:http://www.ti.com/product/sn65mlvd128#samples
footprint DGG48_N (TSSOP, 48-Leads, Body 12.5x6.1mm, Pitch 0.5mm, IPC Medium Density)
footprint DGG48_L (TSSOP, 48-Leads, Body 12.5x6.1mm, Pitch 0.5mm, IPC High Density)
footprint DGG48_M (TSSOP, 48-Leads, Body 12.5x6.1mm, Pitch 0.5mm, IPC Low Density)
part A pins: 2 1A (hiz) "M-LVDS bus noninverting output", 3 1B (hiz) "M-LVDS bus inverting output", 4 2A (hiz) "M-LVDS bus noninverting output", 5 2B (hiz) "M-LVDS bus inverting output", 8 3A (hiz) "M-LVDS bus noninverting output", 9 3B (hiz) "M-LVDS bus inverting output", 10 4A (hiz) "M-LVDS bus noninverting output", 11 4B (hiz) "M-LVDS bus inverting output", 14 5A (hiz) "M-LVDS bus noninverting output", 15 5B (hiz) "M-LVDS bus inverting output", 16 6A (hiz) "M-LVDS bus noninverting output", 17 6B (hiz) "M-LVDS bus inverting output", 20 7A (hiz) "M-LVDS bus noninverting output", 21 7B (hiz) "M-LVDS bus inverting output", 22 8A (hiz) "M-LVDS bus noninverting output", 23 8B (hiz) "M-LVDS bus inverting output", 27 EN8 (in) "Driver enable, active high, individual enables", 28 EN7 (in) "Driver enable, active high, individual enables", 32 EN6 (in) "Driver enable, active high, individual enables", 33 EN5 (in) "Driver enable, active high, individual enables", 39 1D (in) "Data inputs for drivers", 40 EN4 (in) "Driver enable, active high, individual enables", 41 EN3 (in) "Driver enable, active high, individual enables", 45 EN2 (in) "Driver enable, active high, individual enables", 46 EN1 (in) "Driver enable, active high, individual enables"
part B pins: 1 VCC (power) "Supply voltage", 6 GND (power) "Circuit ground", 7 VCC (power) "Supply voltage", 12 GND (power) "Circuit ground", 13 VCC (power) "Supply voltage", 18 GND (power) "Circuit ground", 19 VCC (power) "Supply voltage", 24 GND (power) "Circuit ground", 25 GND (power) "Circuit ground", 26 GND (power) "Circuit ground", 29 VCC (power) "Supply voltage", 30 VCC (power) "Supply voltage", 31 GND (power) "Circuit ground", 34 NC "Not connected", 35 VCC (power) "Supply voltage", 36 VCC (power) "Supply voltage", 37 GND (power) "Circuit ground", 38 GND (power) "Circuit ground", 42 NC "Not connected", 43 GND (power) "Circuit ground", 44 GND (power) "Circuit ground", 47 VCC (power) "Supply voltage", 48 VCC (power) "Supply voltage"

## SN65MLVD129DGG
designator U?
250 Mbps Dual 1:4 LVTTL to M-LVDS Repeater with LVTTL Input and M-LVDS Output, 8 Tx and 2 Rx, -40 to +85 degC, 48-pin TSSOP (DGG), Green (RoHS & no Sb/Br); Part-to-Part Skew(Max)(ps): 800; Manufacturer: Texas Instruments; PartNumber: SN65MLVD129DGG; ESD HBM(kV): 9; Function: Repeater/Translator; ICC(Max)(mA): 140; No. of Rx: 2; No. of Tx: 8; Peak-to-Peak Jitter(Max)(ps): 110; Signaling Rate(Mbps): 250; SubFamily: M-LVDS PHY (<500Mbps); DatasheetVersion: SLLS586; PackageVersion: revF, Dec-1997; PackageReference: DGG48; PackageDescription: 48-Pin Plastic Thin Shrink Small Outline Package 0.5 mm Pitch; Supplier 1: Digi-Key; Supplier Part Number 1: 296-16850-ND; Supplier 2: Newark; Supplier Part Number 2: 01J0715; Supplier 3: Mouser; Supplier Part Number 3: 595-SN65MLVD129DGG; Eco-Plan: Green (RoHS & no Sb/Br); Input Signal: LVTTL; Output Signal: M-LVDS; Mounting Technology: Surface Mount; Code_JEDEC: MO-153; ComponentLink1Description: Datasheet; ComponentLink1URL: http://www.ti.com/general/docs/lit/getliterature.tsp?genericPartNumber=SN65MLVD129&fileType=pdf; ComponentLink2Description: URL Link1; ComponentLink2URL: SamplesURL:http://www.ti.com/product/sn65mlvd129#samples
footprint DGG48_N (TSSOP, 48-Leads, Body 12.5x6.1mm, Pitch 0.5mm, IPC Medium Density)
footprint DGG48_L (TSSOP, 48-Leads, Body 12.5x6.1mm, Pitch 0.5mm, IPC High Density)
footprint DGG48_M (TSSOP, 48-Leads, Body 12.5x6.1mm, Pitch 0.5mm, IPC Low Density)
part A pins: 2 1A (hiz) "M-LVDS bus noninverting output", 3 1B (hiz) "M-LVDS bus inverting output", 4 2A (hiz) "M-LVDS bus noninverting output", 5 2B (hiz) "M-LVDS bus inverting output", 8 3A (hiz) "M-LVDS bus noninverting output", 9 3B (hiz) "M-LVDS bus inverting output", 10 4A (hiz) "M-LVDS bus noninverting output", 11 4B (hiz) "M-LVDS bus inverting output", 14 5A (hiz) "M-LVDS bus noninverting output", 15 5B (hiz) "M-LVDS bus inverting output", 16 6A (hiz) "M-LVDS bus noninverting output", 17 6B (hiz) "M-LVDS bus inverting output", 20 7A (hiz) "M-LVDS bus noninverting output", 21 7B (hiz) "M-LVDS bus inverting output", 22 8A (hiz) "M-LVDS bus noninverting output", 23 8B (hiz) "M-LVDS bus inverting output", 27 EN8 (in) "Driver enable,active high,individual enables", 28 EN7 (in) "Driver enable,active high,individual enables", 32 EN6 (in) "Driver enable,active high,individual enables", 33 EN5 (in) "Driver enable,active high,individual enables", 34 2D (in) "Data inputs for drivers", 39 1D (in) "Data inputs for drivers", 40 EN4 (in) "Driver enable,active high,individual enables", 41 EN3 (in) "Driver enable,active high,individual enables", 45 EN2 (in) "Driver enable,active high,individual enables", 46 EN1 (in) "Driver enable,active high,individual enables"
part B pins: 1 VCC (power) "Supply voltage", 6 GND (power) "Circuit ground", 7 VCC (power) "Supply voltage", 12 GND (power) "Circuit ground", 13 VCC (power) "Supply voltage", 18 GND (power) "Circuit ground", 19 VCC (power) "Supply voltage", 24 GND (power) "Circuit ground", 25 GND (power) "Circuit ground", 26 GND (power) "Circuit ground", 29 VCC (power) "Supply voltage", 30 VCC (power) "Supply voltage", 31 GND (power) "Circuit ground", 35 VCC (power) "Supply voltage", 36 VCC (power) "Supply voltage", 37 GND (power) "Circuit ground", 38 GND (power) "Circuit ground", 42 NC "Not connected", 43 GND (power) "Circuit ground", 44 GND (power) "Circuit ground", 47 VCC (power) "Supply voltage", 48 VCC (power) "Supply voltage"

## SN65MLVD129DGGG4
designator U?
250 Mbps Dual 1:4 LVTTL to M-LVDS Repeater with LVTTL Input and M-LVDS Output, 8 Tx and 2 Rx, -40 to +85 degC, 48-pin TSSOP (DGG), Green (RoHS & no Sb/Br); Part-to-Part Skew(Max)(ps): 800; Manufacturer: Texas Instruments; PartNumber: SN65MLVD129DGGG4; ESD HBM(kV): 9; Function: Repeater/Translator; ICC(Max)(mA): 140; No. of Rx: 2; No. of Tx: 8; Peak-to-Peak Jitter(Max)(ps): 110; Signaling Rate(Mbps): 250; SubFamily: M-LVDS PHY (<500Mbps); DatasheetVersion: SLLS586; PackageVersion: revF, Dec-1997; PackageReference: DGG48; PackageDescription: 48-Pin Plastic Thin Shrink Small Outline Package 0.5 mm Pitch; Supplier 1: Digi-Key; Supplier Part Number 1: SN65MLVD129DGGG4-ND; Supplier 2: Newark; Supplier Part Number 2: 28M7665; Supplier 3: Mouser; Supplier Part Number 3: 595-SN65MLVD129DGGG4; Eco-Plan: Green (RoHS & no Sb/Br); Input Signal: LVTTL; Output Signal: M-LVDS; Mounting Technology: Surface Mount; Code_JEDEC: MO-153; ComponentLink1Description: Datasheet; ComponentLink1URL: http://www.ti.com/general/docs/lit/getliterature.tsp?genericPartNumber=SN65MLVD129&fileType=pdf; ComponentLink2Description: URL Link1; ComponentLink2URL: SamplesURL:http://www.ti.com/product/sn65mlvd129#samples
footprint DGG48_N (TSSOP, 48-Leads, Body 12.5x6.1mm, Pitch 0.5mm, IPC Medium Density)
footprint DGG48_L (TSSOP, 48-Leads, Body 12.5x6.1mm, Pitch 0.5mm, IPC High Density)
footprint DGG48_M (TSSOP, 48-Leads, Body 12.5x6.1mm, Pitch 0.5mm, IPC Low Density)
part A pins: 2 1A (hiz) "M-LVDS bus noninverting output", 3 1B (hiz) "M-LVDS bus inverting output", 4 2A (hiz) "M-LVDS bus noninverting output", 5 2B (hiz) "M-LVDS bus inverting output", 8 3A (hiz) "M-LVDS bus noninverting output", 9 3B (hiz) "M-LVDS bus inverting output", 10 4A (hiz) "M-LVDS bus noninverting output", 11 4B (hiz) "M-LVDS bus inverting output", 14 5A (hiz) "M-LVDS bus noninverting output", 15 5B (hiz) "M-LVDS bus inverting output", 16 6A (hiz) "M-LVDS bus noninverting output", 17 6B (hiz) "M-LVDS bus inverting output", 20 7A (hiz) "M-LVDS bus noninverting output", 21 7B (hiz) "M-LVDS bus inverting output", 22 8A (hiz) "M-LVDS bus noninverting output", 23 8B (hiz) "M-LVDS bus inverting output", 27 EN8 (in) "Driver enable,active high,individual enables", 28 EN7 (in) "Driver enable,active high,individual enables", 32 EN6 (in) "Driver enable,active high,individual enables", 33 EN5 (in) "Driver enable,active high,individual enables", 34 2D (in) "Data inputs for drivers", 39 1D (in) "Data inputs for drivers", 40 EN4 (in) "Driver enable,active high,individual enables", 41 EN3 (in) "Driver enable,active high,individual enables", 45 EN2 (in) "Driver enable,active high,individual enables", 46 EN1 (in) "Driver enable,active high,individual enables"
part B pins: 1 VCC (power) "Supply voltage", 6 GND (power) "Circuit ground", 7 VCC (power) "Supply voltage", 12 GND (power) "Circuit ground", 13 VCC (power) "Supply voltage", 18 GND (power) "Circuit ground", 19 VCC (power) "Supply voltage", 24 GND (power) "Circuit ground", 25 GND (power) "Circuit ground", 26 GND (power) "Circuit ground", 29 VCC (power) "Supply voltage", 30 VCC (power) "Supply voltage", 31 GND (power) "Circuit ground", 35 VCC (power) "Supply voltage", 36 VCC (power) "Supply voltage", 37 GND (power) "Circuit ground", 38 GND (power) "Circuit ground", 42 NC "Not connected", 43 GND (power) "Circuit ground", 44 GND (power) "Circuit ground", 47 VCC (power) "Supply voltage", 48 VCC (power) "Supply voltage"